# Altium footprint library Connectors.PcbLib: 147 footprints (part 10 of 10)
Each footprint in its own frame and in the unit in brackets; x right, y up, seen from the top. Pads: shape width x height; smd on the part's side, far side on the other; paste and mask are expansions set on the pad; w line width, h text height; cw(c..) or ccw(c..) is an arc to the next point about the centre after c.
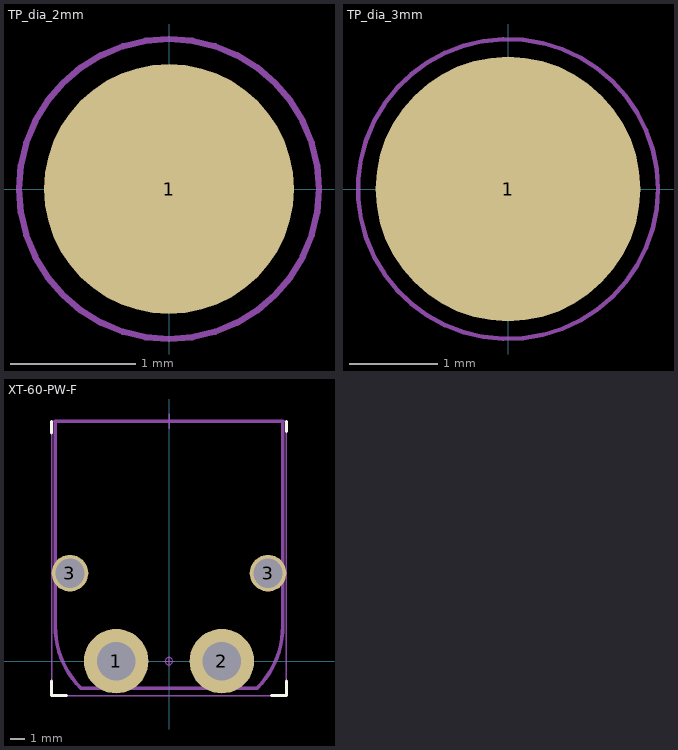
[diagram p9: the footprints below, top view; thin cyan lines are the x and y axes]

## TP_dia_2mm [mm] "Тестовая точка, 2мм"
pads (1):
  round 2 smd paste-2539.97: 1(0,0)
Top Overlay:
  text ".Net" at 1.3,-0.675 h2.5
Top Courtyard:
  circle w0.05: c0,0 r1.2

## TP_dia_3mm [mm] "Тестовая точка, 3мм"
pads (1):
  round 3 smd paste-2539.97: 1(0,0)
Top Overlay:
  text ".Net" at 1.8,-0.675 h2.5
Top Courtyard:
  circle w0.05: c0,0 r1.7

## XT-60-PW-F [mm] "AMASS"
height 8.4
pads (4):
  round 4.4 hole 2.6: 1(-3.6,0) 2(3.6,0)
  round 2.5 hole 2: 3(-6.75,6) 3(6.75,6)
Top Overlay:
  lines w0.2: -8,-1.35 -8,-2.35 -7,-2.35 ; -8,15.55 -8,16.35 ; 7,-2.35 8,-2.35 8,-1.35 ; 8,15.65 8,16.35
Top Assembly:
  lines w0.25: -7.75,2.375 ccw(c-1.775,2.375) -6,-1.85 3.5,-1.85 6,-1.85 ccw(c1.775,2.375) 7.75,2.375 7.75,16.35 -7.75,16.35 -7.75,2.375
  text ".Designator" at -3,8.15 h2
Top Courtyard:
  circle w0.05: c0,0 r0.25
  lines w0.05: -0.35,0 0.35,0 ; 0,-0.35 0,0.35
  lines w0.1: 0,15.85 0,16.85 ; -8,-2.35 -8,16.35 8,16.35 8,-2.35 -8,-2.35
3D body "XT60PW-F.STEP": height 8.4, standoff -2.5, extent -7.75,-1.85 7.75,15.35